# Altium footprint library WL-SFSW_1204.PcbLib: 1 footprints
Each footprint in its own frame and in the unit in brackets; x right, y up, seen from the top. Pads: shape width x height; smd on the part's side, far side on the other; paste and mask are expansions set on the pad; w line width, h text height; cw(c..) or ccw(c..) is an arc to the next point about the centre after c.
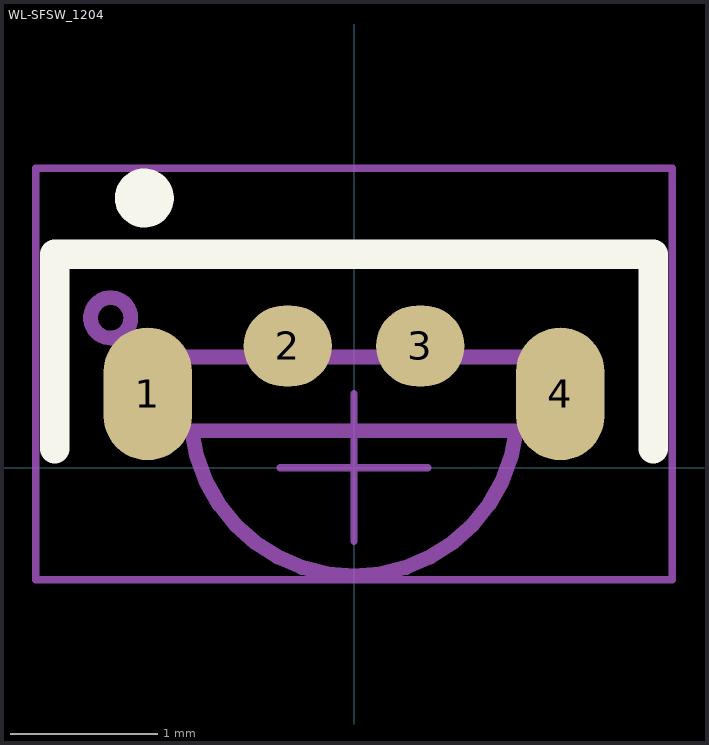
[diagram p0: the footprint, top view; thin cyan lines are the x and y axes]

## WL-SFSW_1204 [mm]
pads (4):
  oval 0.6x0.9 smd mask+0.05: 1(-1.4,0.5) 4(1.4,0.5)
  oval 0.6x0.55 smd mask+0.05: 2(-0.45,0.825) 3(0.45,0.825)
Top Overlay:
  circle w0.2: c-1.422,1.829 r0.1
  lines w0.2: -2.032,0.127 -2.032,1.448 0,1.448 2.032,1.448 2.032,0.127
Assembly Top:
  circle w0.1: c-1.651,1.016 r0.137
  lines w0.1: -1.1,0.25 ccw(c0,0.372) 1.1,0.25 ; -1.1,0.25 -1.6,0.25 -1.6,0.75 1.6,0.75 1.6,0.25 1.1,0.25 ; -1.1,0.25 1.1,0.25
  text "'.Designator'" at -0.973,0.372 h0.15
Courtyard Top:
  lines w0.05: -0.5,0 0.5,0 ; 0,-0.5 0,0.5 ; -2.159,-0.762 -2.159,2.032 2.159,2.032 2.159,-0.762 -2.159,-0.762
3D body "dioda.STEP": height 1.03, standoff 0.03, extent -1.6,-0.738 1.6,0.762